# EAGLE library part CH340G (library micwl)
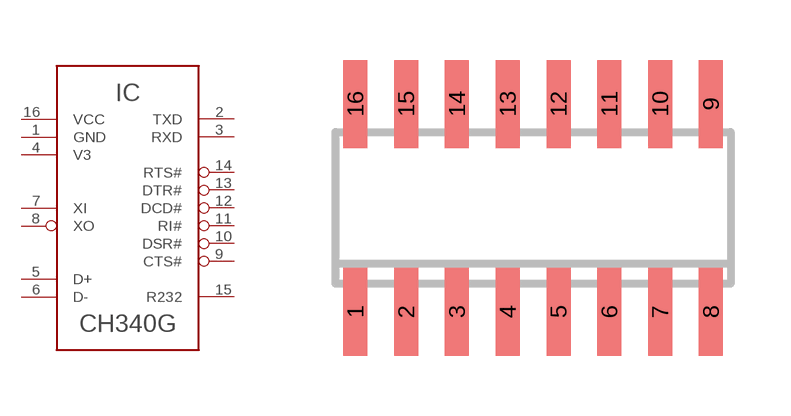
[diagram p6: symbol with the pads of SO16; footprint SO16]

Designator prefix IC

## CH340G  [SO16]
1  GND  pwr
2  TXD  out
3  RXD  in
4  V3  pwr
5  D+  pas
6  D-  pas
7  XI  in
8  XO  out
9  CTS#  in
10  DSR#  in
11  RI#  in
12  DCD#  in
13  DTR#  out
14  RTS#  out
15  R232  in
16  VCC  pwr

## Footprint SO16 (pad centres in mm)
SMALL OUTLINE INTEGRATED CIRCUIT body 3.9 mm/JEDEC MS-012AC
smd 0.6 x 2.2: 1 -4.445,-2.6; 2 -3.175,-2.6; 3 -1.905,-2.6; 4 -0.635,-2.6; 5 0.635,-2.6; 6 1.905,-2.6; 7 3.175,-2.6; 8 4.445,-2.6; 9 4.445,2.6; 10 3.175,2.6; 11 1.905,2.6; 12 0.635,2.6; 13 -0.635,2.6; 14 -1.905,2.6; 15 -3.175,2.6; 16 -4.445,2.6